# Altium schematic symbol library V_T_V4.SchLib: 42 symbols
Pins are listed as number, name and electrical type; pins without a type are passive.

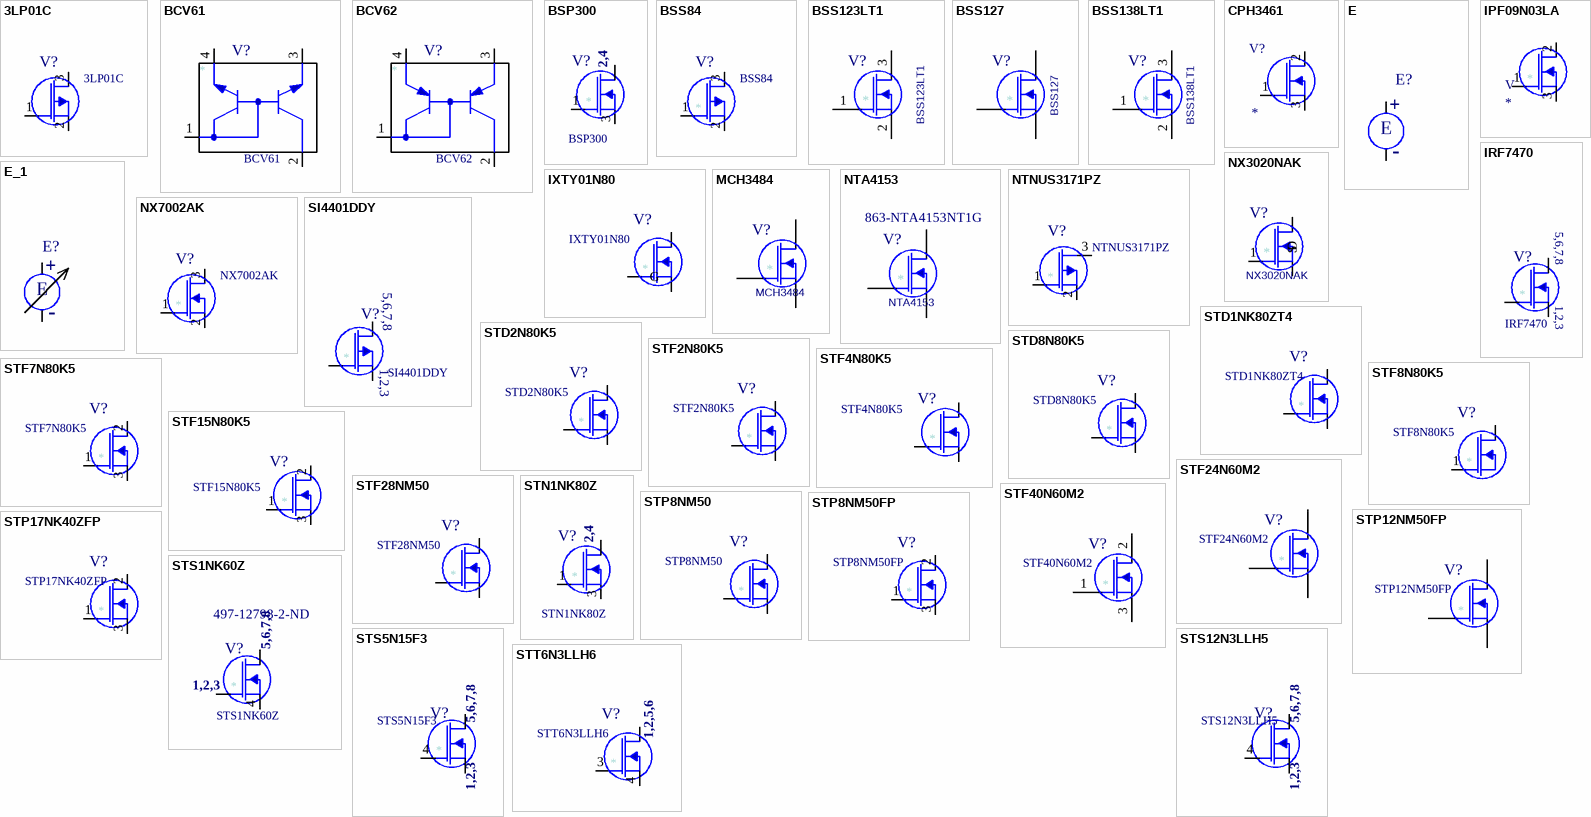
[diagram p0: symbols 3LP01C to STT6N3LLH6]

## 3LP01C
designator V?
TitAD: Транзистор
footprint SOT-23
pins: 1 G, 2 S, 3 D

## BCV61
designator V?
TitAD: Транзистор
footprint SOT143 (SOT143, 4-Leads, Body 2,90x2,30mm, Pitch 1,90mm, IPC Medium Density)
pins: 1 C2, 2 C1, 3 E1, 4 E2

## BCV62
designator V?
TitAD: Транзистор
footprint SOT143 (SOT143, 4-Leads, Body 2,90x2,30mm, Pitch 1,90mm, IPC Medium Density)
pins: 1 C2, 2 C1, 3 E1, 4 E2

## BSP300
designator V?
TitAD: Транзистор
footprint SOT_223
footprint SOT_223_1
pins: 1 G, 2 D hidden, 3 S, 4 D
1 alternate drawing of the same symbol
text: 2,4

## BSS84
designator V?
TitAD: Транзистор; Supplier 1: Farnell; Supplier Part Number 1: 1510765
footprint SOT-23
pins: 1 G, 2 S, 3 D

## BSS123LT1
designator V?
TitAD: Транзистор
footprint SOT-23
pins: 1 G, 2 S, 3 D
2 alternate drawings of the same symbol

## BSS127
designator V?
TitAD: Транзистор
footprint SOT-23
pins: 1 G, 2 S, 3 D

## BSS138LT1
designator V?
TitAD: Транзистор; Supplier 1: Digi-Key; Supplier Part Number 1: BSS138LT1OSCT-ND
footprint SOT-23
pins: 1 G, 2 S, 3 D

## CPH3461
designator V?
pins: 1 G, 2 D, 3 S

## E
designator E?
TitAD: Транзистор
footprint SMC_1
pins: 1 +, 2 -
1 alternate drawing of the same symbol

## E_1
designator E?
TitAD: Транзистор
footprint SMC_1
pins: 1 +, 2 -
1 alternate drawing of the same symbol
text: E

## IPF09N03LA
designator V
pins: 1 G, 2 D, 3 S

## IRF7470
designator V?
TitAD: Транзистор; Supplier 1: Newark; Supplier Part Number 1: 97K2193
footprint SO8
pins: 1 S, 2 S hidden, 3 S hidden, 4 G, 5 D, 6 D hidden, 7 D hidden, 8 D hidden
text: 5,6,7,8; 1,2,3

## IXTY01N80
designator V?
TitAD: Транзистор
footprint TO-252(DPAK)
pins: 1 G, 2 D, 3 S

## MCH3484
designator V?
TitAD: Транзистор; Supplier 1: Digi-Key; Supplier Part Number 1: BSS138LT1OSCT-ND
footprint SOT323
pins: 1 G, 2 S, 3 D
1 alternate drawing of the same symbol

## NTA4153
designator V?  Supplier Part Number 1: 863-NTA4153NT1G
TitAD: Транзистор; Supplier 1: Mouser
footprint SC-75/SOT-416
pins: 1 G, 2 S, 3 D
1 alternate drawing of the same symbol

## NTNUS3171PZ
designator V?
TitAD: Транзистор
footprint SOT-1123
pins: 1 G, 2 S, 3 D

## NX3020NAK
designator V?
TitAD: Транзистор
footprint SOT-23
pins: 1 G, 2 S, 3 D
1 alternate drawing of the same symbol

## NX7002AK
designator V?
TitAD: Транзистор
footprint SOT-23
pins: 1 G, 2 S, 3 D

## SI4401DDY
designator V?
TitAD: Транзистор; Supplier 1: Digi-Key; Supplier Part Number 1: SI4401DDY-T1-GE3TR-ND
footprint SO8
pins: 1 S, 2 S hidden, 3 S hidden, 4 G, 5 D, 6 D hidden, 7 D hidden, 8 D hidden
text: 5,6,7,8; 1,2,3

## STD1NK80ZT4
designator V?
TitAD: Транзистор; Supplier 1: Mouser; Supplier Part Number 1: 511-STD1NK80ZT4
footprint TO-252(DPAK)
pins: 1 G, 2 D, 3 S

## STD2N80K5
designator V?
TitAD: Транзистор; Supplier 1: Mouser; Supplier Part Number 1: 511-STD2N80K5
footprint TO-252(DPAK)
pins: 1 G, 2 D, 3 S

## STD8N80K5
designator V?
TitAD: Транзистор; Supplier 1: Mouser; Supplier Part Number 1: 511-STD8N80K5
footprint TO-252(DPAK)
pins: 1 G, 2 D, 3 S

## STF2N80K5
designator V?
TitAD: Транзистор
footprint TO-220_A(TO-220FP)
pins: 1 G, 2 D, 3 S

## STF4N80K5
designator V?
TitAD: Транзистор; Supplier 1: Digi-Key; Supplier Part Number 1: 497-14034-5-ND
footprint TO-220FP_R
footprint TO-220FP_R_V2
pins: 1 G, 2 D, 3 S

## STF7N80K5
designator V?
TitAD: Транзистор; Supplier 1: Digi-Key; Supplier Part Number 1: 497-13645-5-ND
footprint TO-220FP_R_V2
footprint TO-220FP_R
footprint TO-220FP_R_V3
pins: 1 G, 2 D, 3 S

## STF8N80K5
designator V?
TitAD: Транзистор; Supplier 1: Digi-Key; Supplier Part Number 1: 497-13645-5-ND
footprint TO-220FP_R_V2
footprint TO-220FP_R
footprint TO-220FP_R_V3
pins: 1 G, 2 D, 3 S hidden

## STF15N80K5
designator V?
TitAD: Транзистор; Supplier 1: Digi-Key; Supplier Part Number 1: 497-13437-ND
footprint TO-220FP_R
footprint TO-220FP_R_V2
footprint TO-220FP_R_V3
pins: 1 G, 2 D, 3 S

## STF24N60M2
designator V?
TitAD: Транзистор; Supplier 1: Mouser; Supplier Part Number 1: 511-STF24N60M2
footprint TO-220_A(TO-220FP)
footprint TO-220_B(TO-220FP)
footprint TO-220FP_R
footprint TO-220_C(TO-220FP)
footprint TO-220FP_R_V2
pins: 1 G, 2 D, 3 S

## STF28NM50
designator V?
TitAD: Транзистор; Supplier 1: Mouser; Supplier Part Number 1: 511-STF8N80K5
footprint TO-220_A(TO-220FP)
pins: 1 G, 2 D, 3 S
1 alternate drawing of the same symbol

## STF40N60M2
designator V?
TitAD: Транзистор; Supplier 1: Mouser; Supplier Part Number 1: 511-STF24N60M2
footprint TO-220_A(TO-220FP)
footprint TO-220_B(TO-220FP)
footprint TO-220FP_R
footprint TO-220_C(TO-220FP)
footprint TO-220FP_R_V2
footprint TO-220FP_R_V3
pins: 1 G, 2 D, 3 S

## STN1NK80Z
designator V?
TitAD: Транзистор
footprint SOT_223
footprint SOT_223_1
pins: 1 G, 2 D hidden, 3 S, 4 D
1 alternate drawing of the same symbol
text: 2,4

## STP8NM50
designator V?
TitAD: Транзистор; Supplier 1: Mouser; Supplier Part Number 1: 511-STP8NM50
footprint TO-220(TO-220FP)
footprint TO-220_A(TO-220FP)
footprint TO-220_B(TO-220FP)
pins: 1 G, 2 D, 3 S

## STP8NM50FP
designator V?
TitAD: Транзистор; Supplier 1: Digi-Key; Supplier Part Number 1: 497-13645-5-ND
footprint TO-220FP_R_V2
footprint TO-220FP_R
footprint TO-220FP_R_V3
pins: 1 G, 2 D, 3 S

## STP12NM50FP
designator V?
TitAD: Транзистор; Supplier 1: Digi-Key; Supplier Part Number 1: 497-2665-5-ND
footprint TO-220_A(TO-220FP)
footprint TO-220_B(TO-220FP)
pins: 1 G, 2 D, 3 S

## STP17NK40ZFP
designator V?
TitAD: Транзистор; Supplier 1: Digi-Key; Supplier Part Number 1: 497-13645-5-ND
footprint TO-220FP_R_V2
footprint TO-220FP_R
footprint TO-220FP_R_V3
footprint TO-220FP_R_V4
pins: 1 G, 2 D, 3 S

## STS1NK60Z
designator V?  Supplier Part Number 1: 497-12798-2-ND
TitAD: Транзистор; Supplier 1: Digi-Key
footprint SO8
pins: 1 G, 2 S hidden, 3 S hidden, 4 S, 5 D, 6 D hidden, 7 D hidden, 8 D hidden
text: 5,6,7,8; 1,2,3

## STS5N15F3
designator V?
TitAD: Транзистор; Supplier 1: Mouser; Supplier Part Number 1: 511-STS5N15F3
footprint SO8
pins: 1 S, 2 S hidden, 3 S hidden, 4 G, 5 D, 6 D hidden, 7 D hidden, 8 D hidden
text: 5,6,7,8; 1,2,3

## STS12N3LLH5
designator V?
TitAD: Транзистор; Supplier 1: Mouser; Supplier Part Number 1: 511-STS5N15F3
footprint SO8
pins: 1 S, 2 S hidden, 3 S hidden, 4 G, 5 D, 6 D hidden, 7 D hidden, 8 D hidden
text: 5,6,7,8; 1,2,3

## STT6N3LLH6
designator V?
TitAD: Транзистор
footprint SOT23-6L
pins: 1 D, 2 D hidden, 3 G, 4 S, 5 D hidden, 6 D hidden
text: 1,2,5,6

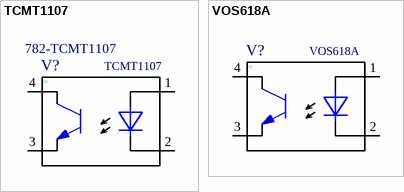
[diagram p1: symbols TCMT1107 to VOS618A]

## TCMT1107
designator V?  Supplier Part Number 1: 782-TCMT1107
TitAD: Фототранзистор; Supplier 1: Mouser
footprint SSOP-4
pins: 1 A, 2 C, 3 E, 4 C

## VOS618A
designator V?
TitAD: Фототранзистор; Supplier 1: Newark; Supplier Part Number 1: 72W1541
footprint SSOP-4
pins: 1 A, 2 C, 3 E, 4 C